# EAGLE library part USB_TYPE_C (library Usb_c)
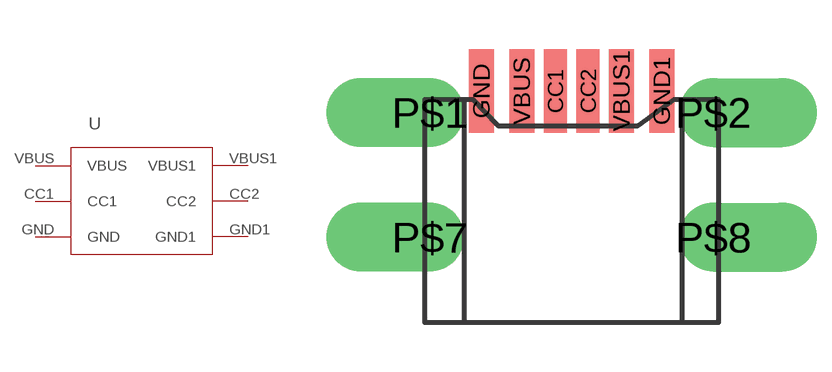
[diagram p0: symbol with the pads of USB_TYPE_C; footprint USB_TYPE_C]

Designator prefix -

## USB_TYPE_C  [USB_TYPE_C]
CC1  CC1  pwr
CC2  CC2  pwr
GND  GND  pwr
GND1  GND1  pwr
VBUS  VBUS  pwr
VBUS1  VBUS1  pwr

## Footprint USB_TYPE_C (pad centres in mm)
smd 0.7 x 2.54: CC1 3.825,7.061; CC2 4.825,7.061
smd 0.76 x 2.54: GND 1.575,7.061; GND1 7.075,7.061; VBUS 2.805,7.061; VBUS1 5.845,7.061
drill 1.4 pad 1.778 offset: P$1 0,6.4; P$2 8.65,6.4; P$7 0,2.6; P$8 8.65,2.6